# Altium footprint library transistor-small-signal.PCBLIB: 107 footprints (part 4 of 7)
Each footprint in its own frame and in the unit in brackets; x right, y up, seen from the top. Pads: shape width x height; smd on the part's side, far side on the other; paste and mask are expansions set on the pad; w line width, h text height; cw(c..) or ccw(c..) is an arc to the next point about the centre after c.
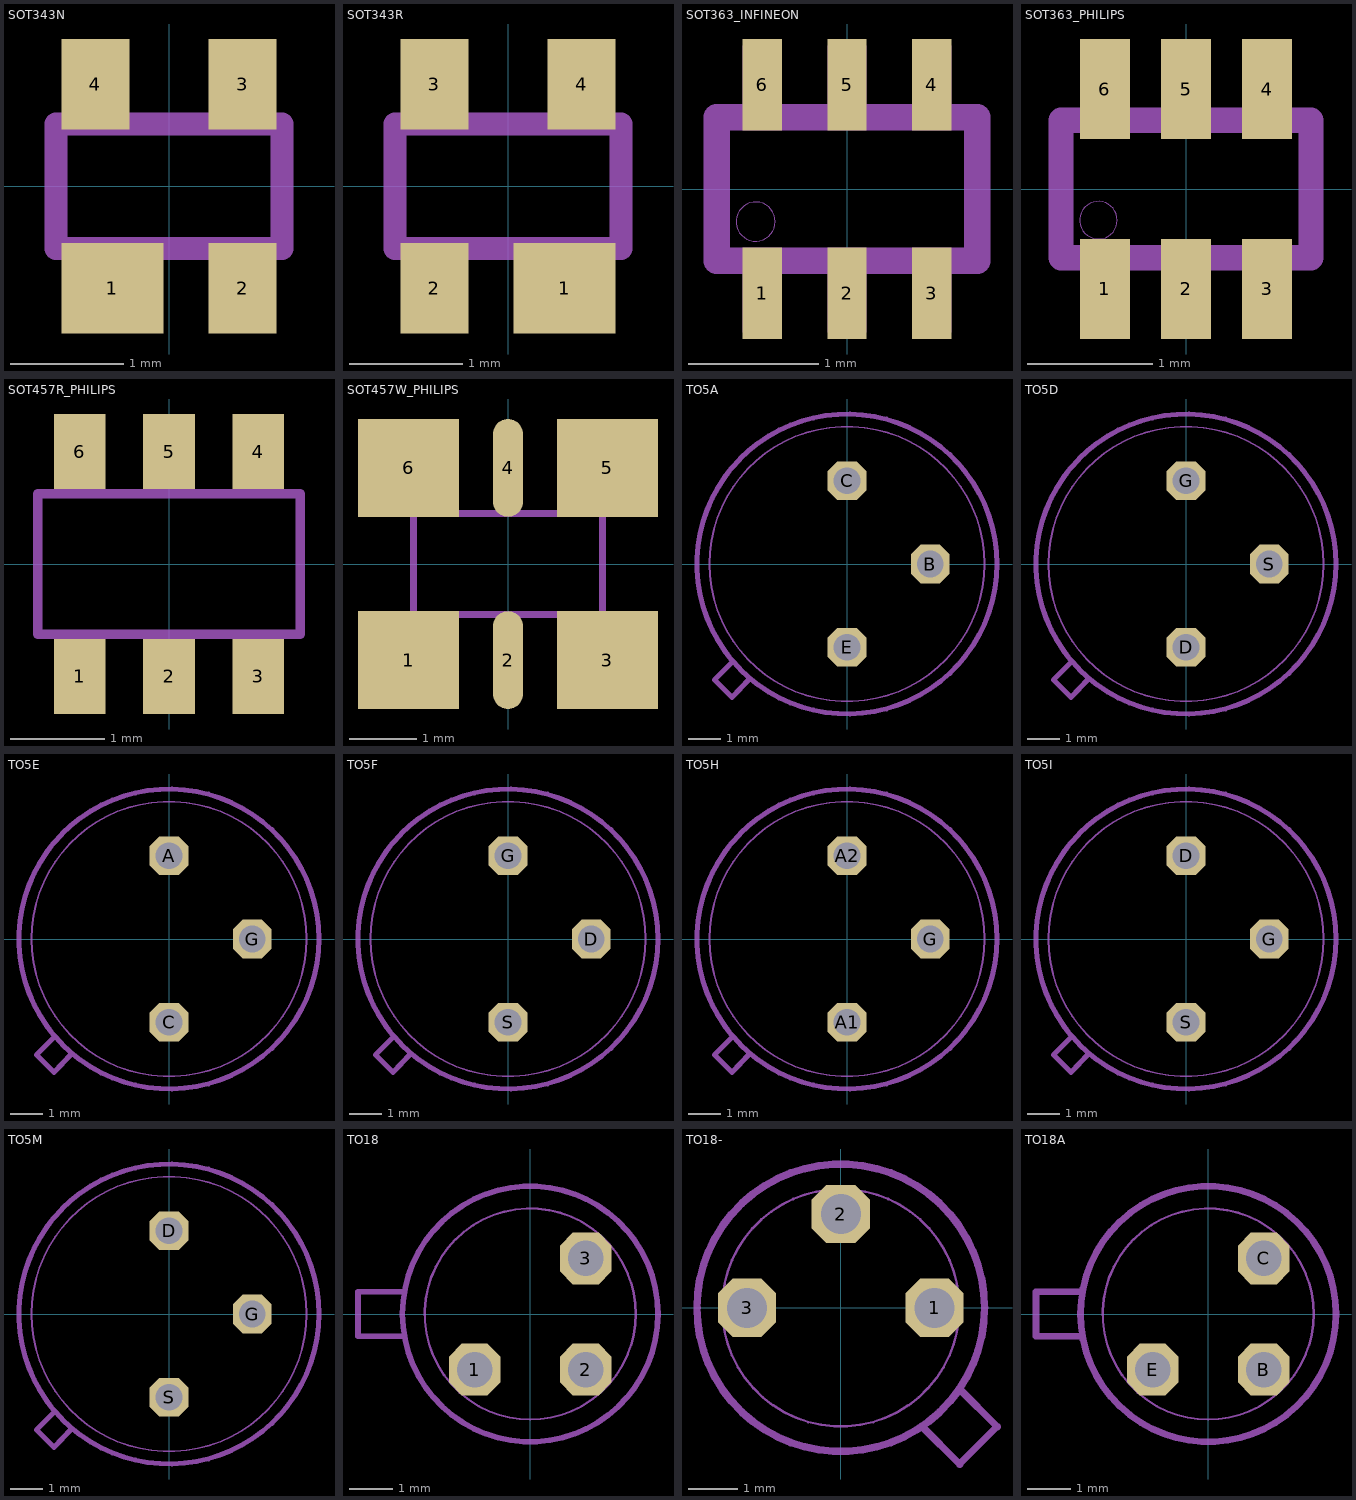
[diagram p3: the footprints below, top view; thin cyan lines are the x and y axes]

## SOT343N [mil]
pads (4):
  rect 35.43x31.5 smd: 1(-19.69,-35.43)
  rect 23.62x31.5 smd: 2(25.59,-35.43) 3(25.59,35.43) 4(-25.59,35.43)
Mechanical 2:
  lines w8: -39.37,-21.65 -39.37,21.65 ; 39.37,-21.65 39.37,21.65
Mechanical 18:
  rectangle: -33.46,-43.31 -5.91,-23.62
  rectangle: 17.72,-43.31 33.46,-23.62
  rectangle: 17.72,23.62 33.46,43.31
  rectangle: -33.46,23.62 -17.72,43.31
  lines w8: -39.37,-21.65 39.37,-21.65 ; -39.37,21.65 39.37,21.65

## SOT343R [mil]
pads (4):
  rect 35.43x31.5 smd: 1(19.69,-35.43)
  rect 23.62x31.5 smd: 2(-25.59,-35.43) 3(-25.59,35.43) 4(25.59,35.43)
Mechanical 2:
  lines w8: -39.37,-21.65 -39.37,21.65 ; 39.37,-21.65 39.37,21.65
Mechanical 18:
  rectangle: 5.91,-43.31 33.46,-23.62
  rectangle: -33.46,-43.31 -17.72,-23.62
  rectangle: -33.46,23.62 -17.72,43.31
  rectangle: 17.72,23.62 33.46,43.31
  lines w8: -39.37,-21.65 39.37,-21.65 ; -39.37,21.65 39.37,21.65

## SOT363_INFINEON [mil]
pads (6):
  rect 11.81x27.56 smd: 1(-25.59,-31.5) 2(0,-31.5) 3(25.59,-31.5) 4(25.59,31.5) 5(0,31.5) 6(-25.59,31.5)
Mechanical 2:
  circle w0: c-27.56,-9.84 r5.91
  lines w8: -39.37,-21.65 -39.37,21.65 ; 39.37,-21.65 39.37,21.65
Mechanical 18:
  rectangle: -31.5,-43.31 -19.69,-23.62
  rectangle: -5.91,-43.31 5.91,-23.62
  rectangle: 19.69,-43.31 31.5,-23.62
  rectangle: 19.69,23.62 31.5,43.31
  rectangle: -5.91,23.62 5.91,43.31
  rectangle: -31.5,23.62 -19.69,43.31
  lines w8: -39.37,-21.65 39.37,-21.65 ; -39.37,21.65 39.37,21.65

## SOT363_PHILIPS [mil]
pads (6):
  rect 15.75x31.5 smd: 1(-25.59,-31.5) 2(0,-31.5) 3(25.59,-31.5) 4(25.59,31.5) 5(0,31.5) 6(-25.59,31.5)
Mechanical 2:
  circle w0: c-27.56,-9.84 r5.91
  lines w8: -39.37,-21.65 -39.37,21.65 ; 39.37,-21.65 39.37,21.65
Mechanical 18:
  rectangle: -31.5,-43.31 -19.69,-23.62
  rectangle: -5.91,-43.31 5.91,-23.62
  rectangle: 19.69,-43.31 31.5,-23.62
  rectangle: 19.69,23.62 31.5,43.31
  rectangle: -5.91,23.62 5.91,43.31
  rectangle: -31.5,23.62 -19.69,43.31
  lines w8: -39.37,-21.65 39.37,-21.65 ; -39.37,21.65 39.37,21.65

## SOT457R_PHILIPS [mil]
pads (6):
  rect 21.65x31.5 smd: 1(-37.4,-47.24) 2(0,-47.24) 3(37.4,-47.24) 4(37.4,47.24) 5(0,47.24) 6(-37.4,47.24)
Mechanical 2:
  lines w4: -55.12,-29.53 -55.12,29.53 ; 55.12,-29.53 55.12,29.53
Mechanical 18:
  rectangle: -44.29,-51.18 -30.51,-30.51
  rectangle: -6.89,-51.18 6.89,-30.51
  rectangle: 30.51,-51.18 44.29,-30.51
  rectangle: 30.51,30.51 44.29,51.18
  rectangle: -6.89,30.51 6.89,51.18
  rectangle: -44.29,30.51 -30.51,51.18
  lines w4: -55.12,-29.53 55.12,-29.53 ; -55.12,29.53 55.12,29.53

## SOT457W_PHILIPS [mil]
pads (6):
  rect 59.06x57.09 smd: 1(-58.07,-56.1) 3(58.07,-56.1) 5(58.07,56.1) 6(-58.07,56.1)
  rrect100% 17.72x57.09 smd: 2(0,-56.1) 4(0,56.1)
Mechanical 2:
  lines w4: -55.12,-29.53 -55.12,29.53 ; 55.12,-29.53 55.12,29.53
Mechanical 18:
  rectangle: -44.29,-51.18 -30.51,-30.51
  rectangle: -6.89,-51.18 6.89,-30.51
  rectangle: 30.51,-51.18 44.29,-30.51
  rectangle: 30.51,30.51 44.29,51.18
  rectangle: -6.89,30.51 6.89,51.18
  rectangle: -44.29,30.51 -30.51,51.18
  lines w4: -55.12,-29.53 55.12,-29.53 ; -55.12,29.53 55.12,29.53

## TO5A [mil]
pads (3):
  oct 46.48x46.48 hole 32: B(100,0) C(0,100) E(0,-100)
Mechanical 2:
  circle w6: c0,0 r180
  circle w2: c0,0 r165
  lines w6: -137,-117 -159,-139 -138,-160 -117,-138

## TO5D [mil]
pads (3):
  oct 46.48x46.48 hole 32: D(0,-100) G(0,100) S(100,0)
Mechanical 2:
  circle w6: c0,0 r180
  circle w2: c0,0 r165
  lines w6: -137,-117 -159,-139 -138,-160 -117,-138

## TO5E [mil]
pads (3):
  oct 46.48x46.48 hole 32: A(0,100) C(0,-100) G(100,0)
Mechanical 2:
  circle w6: c0,0 r180
  circle w2: c0,0 r165
  lines w6: -137,-117 -159,-139 -138,-160 -117,-138

## TO5F [mil]
pads (3):
  oct 46.48x46.48 hole 32: D(100,0) G(0,100) S(0,-100)
Mechanical 2:
  circle w6: c0,0 r180
  circle w2: c0,0 r165
  lines w6: -137,-117 -159,-139 -138,-160 -117,-138

## TO5H [mil]
pads (3):
  oct 46.48x46.48 hole 32: A1(0,-100) A2(0,100) G(100,0)
Mechanical 2:
  circle w6: c0,0 r180
  circle w2: c0,0 r165
  lines w6: -137,-117 -159,-139 -138,-160 -117,-138

## TO5I [mil]
pads (3):
  oct 46.48x46.48 hole 32: D(0,100) G(100,0) S(0,-100)
Mechanical 2:
  circle w6: c0,0 r180
  circle w2: c0,0 r165
  lines w6: -137,-117 -159,-139 -138,-160 -117,-138

## TO5M [mil]
pads (3):
  oct 46.48x46.48 hole 32: D(0,100) G(100,0) S(0,-100)
Mechanical 2:
  circle w6: c0,0 r180
  circle w2: c0,0 r165
  lines w6: -137,-117 -159,-139 -138,-160 -117,-138

## TO18 [mil]
pads (3):
  oct 46.48x46.48 hole 32: 1(-50,-50) 2(50,-50) 3(50,50)
Mechanical 2:
  circle w5: c0,0 r115
  lines w2: -87.68,-36.57 cw(c0,0) 36.57,87.68 ; -36.57,-87.68 ccw(c0,0) 36.57,-87.68 ; 87.68,-36.57 ccw(c0,0) 87.68,36.57
  lines w5: -113.25,-20 -155,-20 -155,20 -113.25,20
Mechanical 18:
  lines w2: -87.68,-36.57 ccw(c0,0) -36.57,-87.68 ; 36.57,-87.68 ccw(c0,0) 87.68,-36.57 ; 36.57,87.68 cw(c0,0) 87.68,36.57

## TO18- [mil]
pads (3):
  oct 46.48x46.48 hole 32: 1(75,0) 2(0,75) 3(-75,0)
Mechanical 2:
  circle w6: c0,0 r115
  lines w2: -87,-38.16 ccw(c0,0) 87,-38.16 ; -87,38.16 cw(c0,0) -38.16,87 ; 38.16,87 cw(c0,0) 87,38.16
  lines w6: 64.92,-94.92 95,-125 125,-95 94.92,-64.92
Mechanical 18:
  lines w2: -87,-38.16 cw(c0.01,0) -87,38.16 ; -38.16,87 cw(c0,-0.01) 38.16,87 ; 87,-38.16 ccw(c-0.01,0) 87,38.16

## TO18A [mil]
pads (3):
  oct 46.48x46.48 hole 32: B(50,-50) C(50,50) E(-50,-50)
Mechanical 2:
  circle w6: c0,0 r115
  lines w2: -87.68,-36.57 cw(c0,0) 36.57,87.68 ; -36.57,-87.68 ccw(c0,0) 36.57,-87.68 ; 87.68,-36.57 ccw(c0,0) 87.68,36.57
  lines w6: -113.27,-20 -155,-20 -155,20 -113.27,20
Mechanical 18:
  lines w2: -87.68,-36.57 ccw(c0,0) -36.57,-87.68 ; 36.57,-87.68 ccw(c0,0) 87.68,-36.57 ; 36.57,87.68 cw(c0,0) 87.68,36.57